# Altium footprint library Connector.PcbLib: 21 footprints (part 1 of 2)
Each footprint in its own frame and in the unit in brackets; x right, y up, seen from the top. Pads: shape width x height; smd on the part's side, far side on the other; paste and mask are expansions set on the pad; w line width, h text height; cw(c..) or ccw(c..) is an arc to the next point about the centre after c.
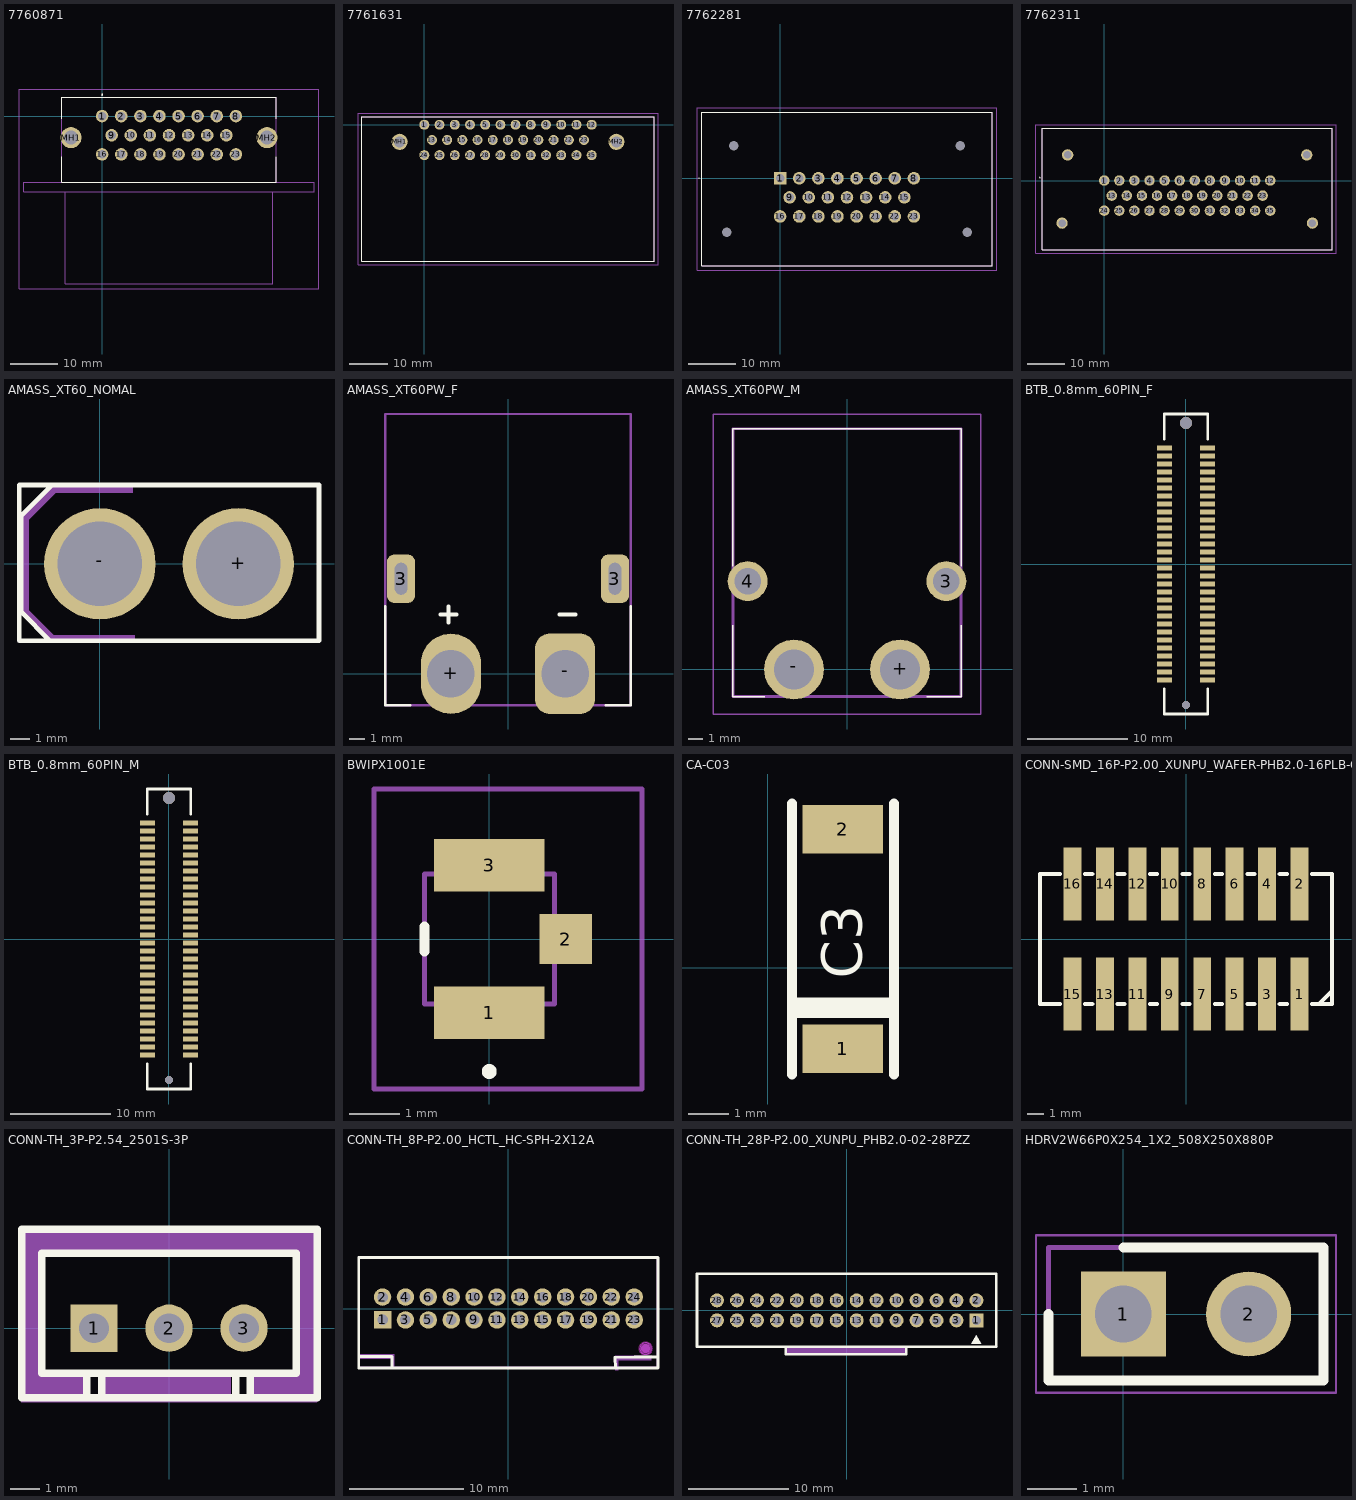
[diagram p0: the footprints below, top view; thin cyan lines are the x and y axes]

## 7760871 [mm]
pads (25):
  round 2.625 hole 1.75: 1(0,0) 2(4,0) 3(8,0) 4(12,0) 5(16,0) 6(20,0) 7(24,0) 8(28,0) 9(2,-4) 10(6,-4) 11(10,-4) 12(14,-4) 13(18,-4) 14(22,-4) 15(26,-4) 16(0,-8) 17(4,-8) 18(8,-8) 19(12,-8) 20(16,-8) 21(20,-8) 22(24,-8) 23(28,-8)
  round 4.395 hole 2.93: MH1(-6.5,-4.5) MH2(34.5,-4.5)
Top Overlay:
  lines w0.1: -8.5,-8.5 -8.5,-13.8 36.5,-13.8 36.5,-8.5 ; -8.5,-0.5 -8.5,4 36.5,4 36.5,-0.5
  lines w0.2: -0.1,4.5 cw(c0,4.5) 0.1,4.5 cw(c0,4.5) -0.1,4.5
Mechanical 13:
  lines w0.2: -7.7,-15.8 -7.7,-35.1 35.7,-35.1 35.7,-15.8 ; -8.5,-13.8 36.5,-13.8 ; -8.5,-13.8 -8.5,4 36.5,4 36.5,-13.8 ; -8.5,-13.8 -16.4,-13.8 -16.4,-15.8 44.4,-15.8 44.4,-13.8 36.5,-13.8
Mechanical 15:
  lines w0.1: -17.4,-36.1 45.4,-36.1 45.4,5.6 -17.4,5.6 -17.4,-36.1
3D body "776087-1.stp": height 27.48, standoff -4.62, extent -16.4,-35.73 44.4,2.07

## 7761631 [mm]
pads (37):
  round 2.625 hole 1.75: 1(0,0) 2(4,0) 3(8,0) 4(12,0) 5(16,0) 6(20,0) 7(24,0) 8(28,0) 9(32,0) 10(36,0) 11(40,0) 12(44,0) 13(2,-4) 14(6,-4) 15(10,-4) 16(14,-4) 17(18,-4) 18(22,-4) 19(26,-4) 20(30,-4) 21(34,-4) 22(38,-4) 23(42,-4) 24(0,-8) 25(4,-8) 26(8,-8) 27(12,-8) 28(16,-8) 29(20,-8) 30(24,-8) 31(28,-8) 32(32,-8) 33(36,-8) 34(40,-8) 35(44,-8)
  round 4.275 hole 2.85: MH1(-6.5,-4.5) MH2(50.5,-4.5)
Top Overlay:
  lines w0.2: -16.45,-35.85 -16.45,2.05 60.45,2.05 60.45,-35.85 -16.45,-35.85
Mechanical 13:
  lines w0.1: -16.45,-35.85 -16.45,2.05 60.45,2.05 60.45,-35.85 -16.45,-35.85
Mechanical 15:
  lines w0.1: -17.45,-36.85 -17.45,3.05 61.45,3.05 61.45,-36.85 -17.45,-36.85
3D body "776163-1.stp": height 27.52, standoff -4.58, extent -16.45,-35.8 60.45,2

## 7762281 [mm]
pads (27):
  rect 2.625x2.625 hole 1.75: 1(0,0)
  round 2.625 hole 1.75: 2(4,0) 3(8,0) 4(12,0) 5(16,0) 6(20,0) 7(24,0) 8(28,0) 9(2,-4) 10(6,-4) 11(10,-4) 12(14,-4) 13(18,-4) 14(22,-4) 15(26,-4) 16(0,-8) 17(4,-8) 18(8,-8) 19(12,-8) 20(16,-8) 21(20,-8) 22(24,-8) 23(28,-8)
  round 1 hole 2 unplated: MH1(-9.7,6.8) MH2(37.7,6.8) MH3(39.2,-11.3) MH4(-11.2,-11.3)
Top Overlay:
  lines w0.1: -17,0 cw(c-16.95,0) -16.9,0 cw(c-16.95,0) -17,0
  lines w0.2: -16.4,-18.3 -16.4,13.8 44.4,13.8 44.4,-18.3 -16.4,-18.3
Mechanical 13:
  lines w0.1: -16.4,-18.3 -16.4,13.8 44.4,13.8 44.4,-18.3 -16.4,-18.3
Mechanical 15:
  lines w0.1: -17.4,-19.3 -17.4,14.8 45.4,14.8 45.4,-19.3 -17.4,-19.3
3D body "776228-1.stp": height 34, standoff -4.07, extent -16.4,-20.11 44.4,11.99

## 7762311 [mm]
pads (39):
  round 2.775 hole 1.85: 1(0,0) 2(4,0) 3(8,0) 4(12,0) 5(16,0) 6(20,0) 7(24,0) 8(28,0) 9(32,0) 10(36,0) 11(40,0) 12(44,0) 13(2,-4) 14(6,-4) 15(10,-4) 16(14,-4) 17(18,-4) 18(22,-4) 19(26,-4) 20(30,-4) 21(34,-4) 22(38,-4) 23(42,-4) 24(0,-8) 25(4,-8) 26(8,-8) 27(12,-8) 28(16,-8) 29(20,-8) 30(24,-8) 31(28,-8) 32(32,-8) 33(36,-8) 34(40,-8) 35(44,-8)
  round 3 hole 2: MH1(-9.7,6.8) MH2(-11.2,-11.3) MH3(55.2,-11.3) MH4(53.7,6.8)
Top Overlay:
  lines w0.1: -16.45,-18.3 60.45,-18.3 60.45,13.8 -16.45,13.8 -16.45,-18.3
  lines w0.3: -17.1,0.75 cw(c-17.05,0.75) -17,0.75 cw(c-17.05,0.75) -17.1,0.75
Mechanical 13:
  lines w0.2: -16.45,-18.3 60.45,-18.3 60.45,13.8 -16.45,13.8 -16.45,-18.3
Mechanical 15:
  lines w0.1: -18.1,-19.3 61.45,-19.3 61.45,14.8 -18.1,14.8 -18.1,-19.3
3D body "776231-1.stp": height 34.34, standoff -3.71, extent -16.6,-19.88 60.3,12.22

## AMASS_XT60_NOMAL [mm]
pads (2):
  round 5.8 hole 4.4 paste-2539.97 mask+0.05: +(7.2,0) -(0,0)
Top Overlay:
  lines w0.254: -2.399,-4 -4.2,-4 -4.2,4.1 -2.501,4.1 ; -1.701,4.1 11.4,4.1 11.4,-4 -2.6,-4 -4.099,-2.499 -4.099,2.499 -2.501,4.1 ; -1.599,4.1 -2.501,4.1
Mechanical 6:
  region: 1.7,4.1 -2.5,4.1 -4.1,2.5 -4.1,-2.5 -2.6,-4 1.8,-4 1.8,-3.7 -2.4,-3.7 -3.7,-2.4 -3.7,2.3 -2.3,3.7 1.7,3.7
Mechanical 15:
  region: 8.95,0 8.95,0.172 8.883,0.51 8.751,0.829 8.559,1.116 8.315,1.359 8.029,1.551 7.71,1.683 7.372,1.75 7.027,1.75 6.689,1.683 6.371,1.551 6.084,1.359 5.84,1.116 5.649,0.829 5.517,0.51 5.45,0.172 5.45,0 5.45,-0.172 5.517,-0.51 5.649,-0.829 5.84,-1.116 6.084,-1.359 6.371,-1.551 6.689,-1.683 7.027,-1.75 7.372,-1.75 7.71,-1.683 8.029,-1.551 8.315,-1.359 8.559,-1.116 8.751,-0.829 8.883,-0.51 8.95,-0.172
  region: 1.75,0 1.75,0.172 1.683,0.51 1.551,0.829 1.359,1.116 1.116,1.359 0.829,1.551 0.51,1.683 0.172,1.75 -0.172,1.75 -0.511,1.683 -0.829,1.551 -1.116,1.359 -1.359,1.116 -1.551,0.829 -1.683,0.51 -1.75,0.172 -1.75,0 -1.75,-0.172 -1.683,-0.51 -1.551,-0.829 -1.359,-1.116 -1.116,-1.359 -0.829,-1.551 -0.511,-1.683 -0.172,-1.75 0.172,-1.75 0.51,-1.683 0.829,-1.551 1.116,-1.359 1.359,-1.116 1.551,-0.829 1.683,-0.51 1.75,-0.172
  region: -4.09,-4.05 -4.09,-4.025 -4.125,-3.99 -4.175,-3.99 -4.21,-4.025 -4.21,-4.05 -4.21,-4.075 -4.175,-4.11 -4.125,-4.11 -4.09,-4.075
  lines w0.051: -4.15,-4.05 11.35,-4.05 11.35,4.05 -4.15,4.05 -4.15,-4.05
3D body "User Library-XT60-2.STEP": height 15.7, standoff -4.5, extent -4.092,-4.011 11.408,4.089
3D body "User Library-XT60.STEP": height 37.12, standoff 15.12, extent -4.343,-3.937 11.592,4.191

## AMASS_XT60PW_F [mm]
pads (4):
  rrect50% 1.778x3.048 hole 0.8 slot 2 at 90 deg: 3(-6.75,6) 3(6.75,6)
  oval 3.81x5.08 hole 3: +(-3.6,0)
  rrect50% 3.81x5.08 hole 3: -(3.6,0)
Top Overlay:
  lines w0.152: -7.75,4.25 -7.75,-2 -6.175,-2 ; 6.175,-2 7.75,-2 7.75,4.25
  lines w0.254: -4.25,3.75 -3.25,3.75 ; -3.75,3.25 -3.75,4.25 ; 3.25,3.75 4.25,3.75
Mechanical 13:
  lines w0.152: -7.75,-2 0,-2 7.75,-2 7.75,16.4 0,16.4 -7.75,16.4 -7.75,-2
3D body "XT60PW FEMALE.STEP": height 8.15, standoff -1.95, extent -7.75,-2 7.75,16.4
3D body "XT60 MALE.STEP": height 8.15, standoff 0.05, extent -7.75,10.3 7.75,30

## AMASS_XT60PW_M [mm]
pads (4):
  round 2.7 hole 1.8: 3(6.75,6) 4(-6.75,6)
  round 4.05 hole 2.7: +(3.6,0) -(-3.6,0)
Top Overlay:
  lines w0.1: -7.75,3 -7.75,-1.85 -5.6,-1.85 ; -7.75,7 -7.75,16.35 7.75,16.35 7.75,7 ; 5.4,-1.85 7.75,-1.85 7.75,3
Mechanical 13:
  lines w0.2: -7.75,-1.85 7.75,-1.85 7.75,16.35 -7.75,16.35 -7.75,-1.85
Mechanical 15:
  lines w0.1: -9.1,-3.025 9.1,-3.025 9.1,17.35 -9.1,17.35 -9.1,-3.025
3D body "XT60PW-M.stp": height 8.44, standoff -2.51, extent -7.95,-1.98 7.95,16.298

## BTB_0.8mm_60PIN_F [mm] "0.8单槽板对板公母座合高5.0，母座，60PIN"
pads (60):
  rect 1.5x0.5 smd: 1(2.16,11.6) 2(2.16,10.8) 3(2.16,10) 4(2.16,9.2) 5(2.16,8.4) 6(2.16,7.6) 7(2.16,6.8) 8(2.16,6) 9(2.16,5.2) 10(2.16,4.4) 11(2.16,3.6) 12(2.16,2.8) 13(2.16,2) 14(2.16,1.2) 15(2.16,0.4) 16(2.16,-0.4) 17(2.16,-1.2) 18(2.16,-2) 19(2.16,-2.8) 20(2.16,-3.6) 21(2.16,-4.4) 22(2.16,-5.2) 23(2.16,-6) 24(2.16,-6.8) 25(2.16,-7.6) 26(2.16,-8.4) 27(2.16,-9.2) 28(2.16,-10) 29(2.16,-10.8) 30(2.16,-11.6) 31(-2.16,-11.6) 32(-2.16,-10.8) 33(-2.16,-10) 34(-2.16,-9.2) 35(-2.16,-8.4) 36(-2.16,-7.6) 37(-2.16,-6.8) 38(-2.16,-6) 39(-2.16,-5.2) 40(-2.16,-4.4) 41(-2.16,-3.6) 42(-2.16,-2.8) 43(-2.16,-2) 44(-2.16,-1.2) 45(-2.16,-0.4) 46(-2.16,0.4) 47(-2.16,1.2) 48(-2.16,2) 49(-2.16,2.8) 50(-2.16,3.6) 51(-2.16,4.4) 52(-2.16,5.2) 53(-2.16,6) 54(-2.16,6.8) 55(-2.16,7.6) 56(-2.16,8.4) 57(-2.16,9.2) 58(-2.16,10) 59(-2.16,10.8) 60(-2.16,11.6)
via 0,14.1 diameter 1.2 hole 1.2
via 0,-14.1 diameter 0.8 hole 0.8
Top Overlay:
  lines w0.254: -2.16,-12.5 -2.16,-15 2.16,-15 2.16,-12.5 ; -2.16,12.5 -2.16,15 2.16,15 2.16,12.5
3D body "SGD-08-F-060P-H38-G210.stp": height 4.44, standoff -0.41, extent -3,-14.9 3,14.9

## BTB_0.8mm_60PIN_M [mm] "0.8单槽板对板公母座合高5.0，公座，60PIN"
pads (60):
  rect 1.5x0.5 smd: 1(-2.16,11.6) 2(-2.16,10.8) 3(-2.16,10) 4(-2.16,9.2) 5(-2.16,8.4) 6(-2.16,7.6) 7(-2.16,6.8) 8(-2.16,6) 9(-2.16,5.2) 10(-2.16,4.4) 11(-2.16,3.6) 12(-2.16,2.8) 13(-2.16,2) 14(-2.16,1.2) 15(-2.16,0.4) 16(-2.16,-0.4) 17(-2.16,-1.2) 18(-2.16,-2) 19(-2.16,-2.8) 20(-2.16,-3.6) 21(-2.16,-4.4) 22(-2.16,-5.2) 23(-2.16,-6) 24(-2.16,-6.8) 25(-2.16,-7.6) 26(-2.16,-8.4) 27(-2.16,-9.2) 28(-2.16,-10) 29(-2.16,-10.8) 30(-2.16,-11.6) 31(2.16,-11.6) 32(2.16,-10.8) 33(2.16,-10) 34(2.16,-9.2) 35(2.16,-8.4) 36(2.16,-7.6) 37(2.16,-6.8) 38(2.16,-6) 39(2.16,-5.2) 40(2.16,-4.4) 41(2.16,-3.6) 42(2.16,-2.8) 43(2.16,-2) 44(2.16,-1.2) 45(2.16,-0.4) 46(2.16,0.4) 47(2.16,1.2) 48(2.16,2) 49(2.16,2.8) 50(2.16,3.6) 51(2.16,4.4) 52(2.16,5.2) 53(2.16,6) 54(2.16,6.8) 55(2.16,7.6) 56(2.16,8.4) 57(2.16,9.2) 58(2.16,10) 59(2.16,10.8) 60(2.16,11.6)
via 0,-14.1 diameter 0.8 hole 0.8
via 0,14.1 diameter 1.2 hole 1.2
Top Overlay:
  lines w0.254: -2.16,-12.5 -2.16,-15 2.16,-15 2.16,-12.5 ; -2.16,12.5 -2.16,15 2.16,15 2.16,12.5
3D body "SGD-08-M-060P-H46-G210.stp": height 4.62, standoff -0.98, extent -3,-14.9 3,14.9

## BWIPX1001E [mm]
pads (3):
  rect 2.2x1.05 smd: 1(0,-1.475) 3(0,1.475)
  rect 1.05x1 smd: 2(1.525,0)
Top Overlay:
  lines w0.2: 0,-2.7 cw(c0,-2.65) 0,-2.6 ; 0,-2.7 ccw(c0,-2.65) 0,-2.6 ; 0,-2.7 cw(c0,-2.65) 0,-2.6 ; -1.3,-0.25 -1.3,0.25 -1.3,-0.25
Mechanical 13:
  lines w0.1: -1.3,-1.3 1.3,-1.3 1.3,1.3 -1.3,1.3 -1.3,-1.3
Mechanical 15:
  lines w0.1: -2.3,-3 3.05,-3 3.05,3 -2.3,3 -2.3,-3
3D body "BWIPX-1-001E.stp": height 1.55, standoff 0, extent -1.3,-1.895 1.95,1.895

## CA-C03 [mm]
pads (2):
  rect 2x1.2 smd: 1(1.87,-2.017) 2(1.87,3.444)
Top Overlay:
  rectangle: 0.6,-1.255 3.013,-0.747
  lines w0.254: 0.6,-2.652 0.6,4.079 ; 3.14,-2.652 3.14,4.079
  text "C3" at 2.342,-0.274 h1

## CONN-SMD_16P-P2.00_XUNPU_WAFER-PHB2.0-16PLB-GM [mm]
pads (16):
  rect 1.1x4.5 smd: 1(7,-3.4) 2(7,3.4) 3(5,-3.4) 4(5,3.4) 5(3,-3.4) 6(3,3.4) 7(1,-3.4) 8(1,3.4) 9(-1,-3.4) 10(-1,3.4) 11(-3,-3.4) 12(-3,3.4) 13(-5,-3.4) 14(-5,3.4) 15(-7,-3.4) 16(-7,3.4)
Top Overlay:
  lines w0.254: -7.781,-4 -9,-4 -9,4 -7.781,4 ; -6.219,-4 -5.781,-4 ; -6.219,4 -5.781,4 ; -4.219,-4 -3.781,-4 ; -4.219,4 -3.781,4 ; -2.219,-4 -1.781,-4 ; -2.219,4 -1.781,4 ; -0.219,-4 0.219,-4 ; -0.219,4 0.219,4 ; 1.781,-4 2.219,-4 ; 1.781,4 2.219,4 ; 3.781,-4 4.219,-4 ; 3.781,4 4.219,4 ; 5.781,-4 6.219,-4 ; 5.781,4 6.219,4 ; 7.781,-4 9,-4 9,4 7.781,4 ; 8.208,-4 9,-3.209 9,-2.699

## CONN-TH_3P-P2.54_2501S-3P [mm]
pads (3):
  rect 1.6x1.6 hole 1: 1(-2.54,0)
  round 1.6 hole 1: 2(0,0) 3(2.54,0)
Top Overlay:
  lines w0.254: -2.794,-2.35 -2.794,-1.524 ; -2.279,-2.35 -2.279,-1.524 ; 2.268,-2.35 2.268,-1.524 ; 2.751,-2.35 2.751,-1.524 ; -4.98,-2.35 -4.98,3.35 5.02,3.35 5.02,-2.35 -4.98,-2.35 ; -4.318,-1.524 4.318,-1.524 4.318,2.54 -4.318,2.54 -4.318,-1.524
Mechanical 6:
  region: -2.22,-2.3 2.098,-2.3 2.098,-1.538 -2.22,-1.538
  region: 2.794,-2.286 2.794,-1.524 4.318,-1.524 4.318,2.54 -4.318,2.54 -4.318,-1.524 -2.794,-1.524 -2.794,-2.286 -5.08,-2.286 -5.08,3.302 5.08,3.302 5.08,-2.286
Mechanical 15:
  region: 2.215,0.325 2.865,0.325 2.865,-0.325 2.215,-0.325
  region: -0.325,0.325 0.325,0.325 0.325,-0.325 -0.325,-0.325
  region: -2.865,0.325 -2.215,0.325 -2.215,-0.325 -2.865,-0.325
  region: -4.94,3.4 -4.941,3.424 -4.975,3.459 -5.024,3.459 -5.059,3.424 -5.06,3.4 -5.059,3.375 -5.024,3.341 -4.975,3.341 -4.941,3.375 -4.94,3.4
  lines w0.051: -5,-2.5 -5,3.4 5,3.4 5,-2.5 -5,-2.5

## CONN-TH_8P-P2.00_HCTL_HC-SPH-2X12A [mil]
pads (24):
  rect 60x60 hole 36: 1(-433.07,-39.37)
  round 60 hole 36: 2(-433.07,39.37) 3(-354.33,-39.37) 4(-354.33,39.37) 5(-275.59,-39.37) 6(-275.59,39.37) 7(-196.85,-39.37) 8(-196.85,39.37) 9(-118.11,-39.37) 10(-118.11,39.37) 11(-39.37,-39.37) 12(-39.37,39.37) 13(39.37,-39.37) 14(39.37,39.37) 15(118.11,-39.37) 16(118.11,39.37) 17(196.85,-39.37) 18(196.85,39.37) 19(275.59,-39.37) 20(275.59,39.37) 21(354.33,-39.37) 22(354.33,39.37) 23(433.07,-39.37) 24(433.07,39.37)
Top Overlay:
  region: -515,-167.8 -424.5,-167.8 -422.56,-165.85
  lines w10: -515,-165.85 -400,-165.85 -400,-205 ; 368.93,-205 367.44,-167.8 435,-166.74 515,-166.74 ; -515,-205 -515,175 515,175 515,-205 -515,-205
Keep-Out Layer:
  board cut-out: 492.12,-137.8 492.06,-133.93 489.01,-126.8 483.49,-121.37 476.32,-118.43 468.57,-118.43 461.4,-121.37 455.87,-126.8 452.82,-133.93 452.76,-137.8 452.82,-141.67 455.87,-148.8 461.4,-154.23 468.57,-157.17 476.32,-157.17 483.49,-154.23 489.01,-148.8 492.06,-141.67 492.12,-137.8
Mechanical 1:
  circle w1: c472.44,-137.8 r19.68
Mechanical 6:
  circle w15.75: c472.44,-137.8 r7.87
  region: 492.44,-162.8 367.44,-162.8 367.44,-212.8 377.44,-212.8 377.44,-177.8 492.44,-177.8
  region: -517.56,-157.8 -392.56,-157.8 -392.56,-207.8 -402.56,-207.8 -402.56,-172.8 -517.56,-172.8
Mechanical 15:
  region: -442.91,-29.53 -423.23,-29.53 -423.23,-49.21 -442.91,-49.21
  region: -442.91,49.21 -423.23,49.21 -423.23,29.53 -442.91,29.53
  region: -364.17,-29.53 -344.49,-29.53 -344.49,-49.21 -364.17,-49.21
  region: -364.17,49.21 -344.49,49.21 -344.49,29.53 -364.17,29.53
  region: -285.43,-29.53 -265.75,-29.53 -265.75,-49.21 -285.43,-49.21
  region: -285.43,49.21 -265.75,49.21 -265.75,29.53 -285.43,29.53
  region: -206.69,-29.53 -187.01,-29.53 -187.01,-49.21 -206.69,-49.21
  region: -206.69,49.21 -187.01,49.21 -187.01,29.53 -206.69,29.53
  region: -127.95,-29.53 -108.27,-29.53 -108.27,-49.21 -127.95,-49.21
  region: -127.95,49.21 -108.27,49.21 -108.27,29.53 -127.95,29.53
  region: -49.21,-29.53 -29.53,-29.53 -29.53,-49.21 -49.21,-49.21
  region: -49.21,49.21 -29.53,49.21 -29.53,29.53 -49.21,29.53
  region: 29.53,-29.53 49.21,-29.53 49.21,-49.21 29.53,-49.21
  region: 29.53,49.21 49.21,49.21 49.21,29.53 29.53,29.53
  region: 108.27,-29.53 127.95,-29.53 127.95,-49.21 108.27,-49.21
  region: 108.27,49.21 127.95,49.21 127.95,29.53 108.27,29.53
  region: 187.01,-29.53 206.69,-29.53 206.69,-49.21 187.01,-49.21
  region: 187.01,49.21 206.69,49.21 206.69,29.53 187.01,29.53
  region: 265.75,-29.53 285.43,-29.53 285.43,-49.21 265.75,-49.21
  region: 265.75,49.21 285.43,49.21 285.43,29.53 265.75,29.53
  region: 344.49,-29.53 364.17,-29.53 364.17,-49.21 344.49,-49.21
  region: 344.49,49.21 364.17,49.21 364.17,29.53 344.49,29.53
  region: 423.23,-29.53 442.91,-29.53 442.91,-49.21 423.23,-49.21
  region: 423.23,49.21 442.91,49.21 442.91,29.53 423.23,29.53
  region: -509.45,-200.79 -509.47,-199.83 -510.85,-198.48 -512.77,-198.48 -514.15,-199.83 -514.17,-200.79 -514.15,-201.75 -512.77,-203.1 -510.85,-203.1 -509.47,-201.75 -509.45,-200.79
  lines w2: -511.81,-200.79 511.81,-200.79 511.81,173.23 -511.81,173.23 -511.81,-200.79
Multi-Layer keep-out:
  circle w10: c472.44,-137.8 r19.68

## CONN-TH_28P-P2.00_XUNPU_PHB2.0-02-28PZZ [mm]
pads (28):
  rect 1.4x1.4 hole 0.9: 1(13,-1)
  round 1.4 hole 0.9: 2(13,1) 3(11,-1) 4(11,1) 5(9,-1) 6(9,1) 7(7,-1) 8(7,1) 9(5,-1) 10(5,1) 11(3,-1) 12(3,1) 13(1,-1) 14(1,1) 15(-1,-1) 16(-1,1) 17(-3,-1) 18(-3,1) 19(-5,-1) 20(-5,1) 21(-7,-1) 22(-7,1) 23(-9,-1) 24(-9,1) 25(-11,-1) 26(-11,1) 27(-13,-1) 28(-13,1)
Top Overlay:
  region: 12.97,-2.476 13.478,-3.365 12.462,-3.365
  lines w0.254: -6.096,-3.683 -6.096,-4.383 5.936,-4.383 ; 5.969,-4.383 5.969,-3.683 ; -15,-3.65 15,-3.65 15,3.65 -15,3.65 -15,-3.65
Mechanical 6:
  region: -6.096,-3.683 5.969,-3.683 5.969,-4.318 -6.096,-4.318
Mechanical 15:
  drawing of 33 lines, arcs and shapes, not listed

## HDRV2W66P0X254_1X2_508X250X880P [mm]
pads (2):
  rect 1.725x1.725 hole 1.15: 1(0,0)
  round 1.725 hole 1.15: 2(2.54,0)
Top Overlay:
  lines w0.2: -1.52,0 -1.52,-1.35 4.06,-1.35 4.06,1.35 0,1.35
Mechanical 13:
  lines w0.1: -1.52,-1.35 4.06,-1.35 4.06,1.35 -1.52,1.35 -1.52,-1.35
Mechanical 15:
  lines w0.05: -1.77,-1.6 4.31,-1.6 4.31,1.6 -1.77,1.6 -1.77,-1.6
3D body "B-2100S02P-A110.stp": height 8.8, standoff -3.2, extent -1.27,-1.25 3.81,1.25